# Altium footprint library NWE18DHRN-T9410.PcbLib: 1 footprints
Each footprint in its own frame and in the unit in brackets; x right, y up, seen from the top. Pads: shape width x height; smd on the part's side, far side on the other; paste and mask are expansions set on the pad; w line width, h text height; cw(c..) or ccw(c..) is an arc to the next point about the centre after c.
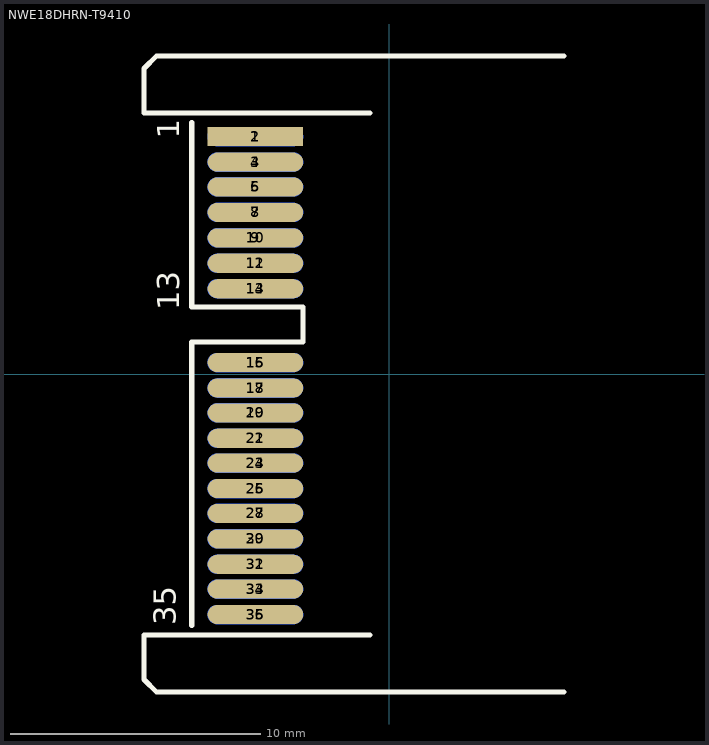
[diagram p0: the footprint, top view; thin cyan lines are the x and y axes]

## NWE18DHRN-T9410 [mil]
pads (36):
  rect 150x30 smd: 1(-210,373)
  oval 150x30 smd far side: 2(-210,373) 4(-210,333) 6(-210,294) 8(-210,254) 10(-210,214) 12(-210,174) 14(-210,134) 16(-210,18) 18(-210,-22) 20(-210,-61) 22(-210,-101) 24(-210,-140) 26(-210,-180) 28(-210,-219) 30(-210,-259) 32(-210,-299) 34(-210,-338) 36(-210,-378)
  oval 150x30 smd: 3(-210,333) 5(-210,294) 7(-210,254) 9(-210,214) 11(-210,174) 13(-210,134) 15(-210,18) 17(-210,-22) 19(-210,-61) 21(-210,-101) 23(-210,-140) 25(-210,-180) 27(-210,-219) 29(-210,-259) 31(-210,-299) 33(-210,-338) 35(-210,-378)
Top Overlay:
  lines w8: -310,-395 -310,50 -135,50 -135,105 -310,105 -310,395 ; -30,-410 -385,-410 -385,-480 -365,-500 275,-500 ; -30,410 -385,410 -385,480 -365,500 275,500
  text "1" at -330,370 h35
  text "13" at -330,100 h35
  text "35" at -335,-395 h35
Bottom Overlay:
  lines w8: -310,-395 -310,50 -135,50 -135,105 -310,105 -310,395 ; -30,-410 -385,-410 -385,-480 -365,-500 275,-500 ; -30,410 -385,410 -385,480 -365,500 275,500
  text "2" at -330,385 h35
  text "14" at -330,150 h35
  text "36" at -335,-335 h35
3D body: height 122.06, standoff -226.37, extent -376.42,-494.25 285,490